# Altium footprint library LM3478_DGK_8.PcbLib: 3 footprints
Each footprint in its own frame and in the unit in brackets; x right, y up, seen from the top. Pads: shape width x height; smd on the part's side, far side on the other; paste and mask are expansions set on the pad; w line width, h text height; cw(c..) or ccw(c..) is an arc to the next point about the centre after c.
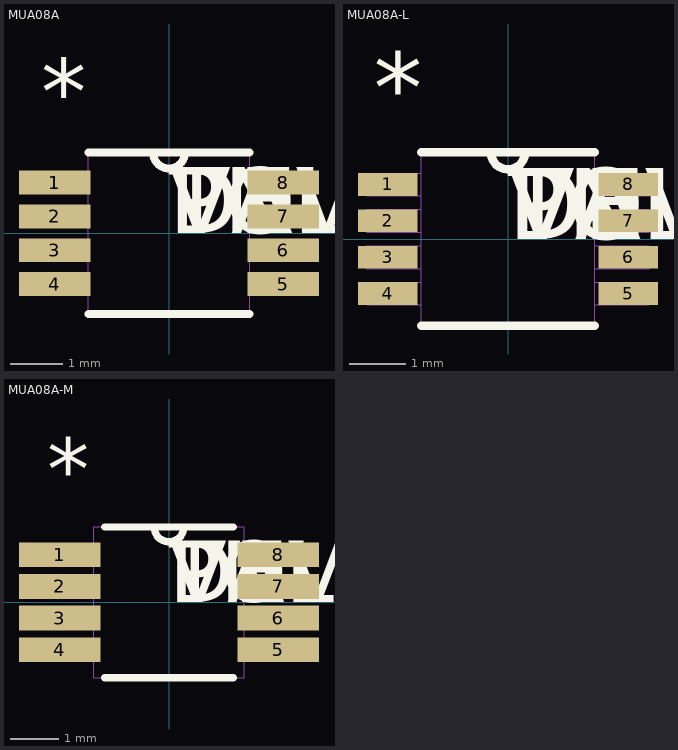
[diagram p0: the footprints below, top view; thin cyan lines are the x and y axes]

## MUA08A [mil]
pads (8):
  rect 54x18 smd mask+4: 1(-86.5,38.39) 2(-86.5,12.8) 3(-86.5,-12.8) 4(-86.5,-38.39) 5(86.5,-38.39) 6(86.5,-12.8) 7(86.5,12.8) 8(86.5,38.39)
Top Overlay:
  lines w6: -61,-61 61,-61 ; -61,61 61,61 ; -12,61 ccw(c0,61) 12,61
  text "*" at -96.5,82.39 h50
  text "PN" at 0,0 h50
  text "DEV" at 0,0 h50
  text "VAL" at 0,0 h50
  text "TOL" at 0,0 h50
Mechanical 1:
  lines w0: -12,61 ccw(c0,61) 12,61 ; -99.5,-46.39 -99.5,-30.39 -61,-30.39 -61,-46.39 -99.5,-46.39 ; -99.5,-20.8 -99.5,-4.8 -61,-4.8 -61,-20.8 -99.5,-20.8 ; -99.5,4.8 -99.5,20.8 -61,20.8 -61,4.8 -99.5,4.8 ; -99.5,30.39 -99.5,46.39 -61,46.39 -61,30.39 -99.5,30.39 ; -61,-61 -61,61 61,61 61,-61 -61,-61 ; 61,-46.39 61,-30.39 99.5,-30.39 99.5,-46.39 61,-46.39 ; 61,-20.8 61,-4.8 99.5,-4.8 99.5,-20.8 61,-20.8 ; 61,4.8 61,20.8 99.5,20.8 99.5,4.8 61,4.8 ; 61,30.39 61,46.39 99.5,46.39 99.5,30.39 61,30.39
  text "*" at -96.5,82.39 h50
  text "RefDes2" at 0,0 h50
3D body: height 37.5, standoff -0.5, extent -96.5,-59 96.5,59

## MUA08A-L [mil]
pads (8):
  rect 42x16 smd mask+4: 1(-84.5,38.39) 2(-84.5,12.8) 3(-84.5,-12.8) 4(-84.5,-38.39) 5(84.5,-38.39) 6(84.5,-12.8) 7(84.5,12.8) 8(84.5,38.39)
Top Overlay:
  lines w6: -61,-61 61,-61 ; -61,61 61,61 ; -12,61 ccw(c0,61) 12,61
  text "*" at -94.5,81.39 h50
  text "PN" at 0,0 h50
  text "DEV" at 0,0 h50
  text "VAL" at 0,0 h50
  text "TOL" at 0,0 h50
Mechanical 1:
  lines w0: -12,61 ccw(c0,61) 12,61 ; -99.5,-46.39 -99.5,-30.39 -61,-30.39 -61,-46.39 -99.5,-46.39 ; -99.5,-20.8 -99.5,-4.8 -61,-4.8 -61,-20.8 -99.5,-20.8 ; -99.5,4.8 -99.5,20.8 -61,20.8 -61,4.8 -99.5,4.8 ; -99.5,30.39 -99.5,46.39 -61,46.39 -61,30.39 -99.5,30.39 ; -61,-61 -61,61 61,61 61,-61 -61,-61 ; 61,-46.39 61,-30.39 99.5,-30.39 99.5,-46.39 61,-46.39 ; 61,-20.8 61,-4.8 99.5,-4.8 99.5,-20.8 61,-20.8 ; 61,4.8 61,20.8 99.5,20.8 99.5,4.8 61,4.8 ; 61,30.39 61,46.39 99.5,46.39 99.5,30.39 61,30.39
  text "*" at -94.5,81.39 h50
  text "RefDes2" at 0,0 h50

## MUA08A-M [mil]
pads (8):
  rect 66x20 smd mask+4: 1(-88.5,38.39) 2(-88.5,12.8) 3(-88.5,-12.8) 4(-88.5,-38.39) 5(88.5,-38.39) 6(88.5,-12.8) 7(88.5,12.8) 8(88.5,38.39)
Top Overlay:
  lines w6: -51.97,-61 51.97,-61 ; -51.97,61 51.97,61 ; -12,61 ccw(c0,61) 12,61
  text "TOL" at 0,0 h50
  text "VAL" at 0,0 h50
  text "DEV" at 0,0 h50
  text "PN" at 0,0 h50
  text "*" at -98.5,83.39 h50
Mechanical 1:
  lines w0: -12,61 ccw(c0,61) 12,61 ; -99.5,-46.39 -61,-46.39 -61,-30.39 -99.5,-30.39 -99.5,-46.39 ; -99.5,-20.8 -61,-20.8 -61,-4.8 -99.5,-4.8 -99.5,-20.8 ; -99.5,4.8 -61,4.8 -61,20.8 -99.5,20.8 -99.5,4.8 ; -99.5,30.39 -61,30.39 -61,46.39 -99.5,46.39 -99.5,30.39 ; -61,-61 61,-61 61,61 -61,61 -61,-61 ; 61,-46.39 99.5,-46.39 99.5,-30.39 61,-30.39 61,-46.39 ; 61,-20.8 99.5,-20.8 99.5,-4.8 61,-4.8 61,-20.8 ; 61,4.8 99.5,4.8 99.5,20.8 61,20.8 61,4.8 ; 61,30.39 99.5,30.39 99.5,46.39 61,46.39 61,30.39
  text "RefDes2" at 0,0 h50
  text "*" at -98.5,83.39 h50